# Altium footprint library Master.PcbLib: 26 footprints (part 2 of 2)
Each footprint in its own frame and in the unit in brackets; x right, y up, seen from the top. Pads: shape width x height; smd on the part's side, far side on the other; paste and mask are expansions set on the pad; w line width, h text height; cw(c..) or ccw(c..) is an arc to the next point about the centre after c.
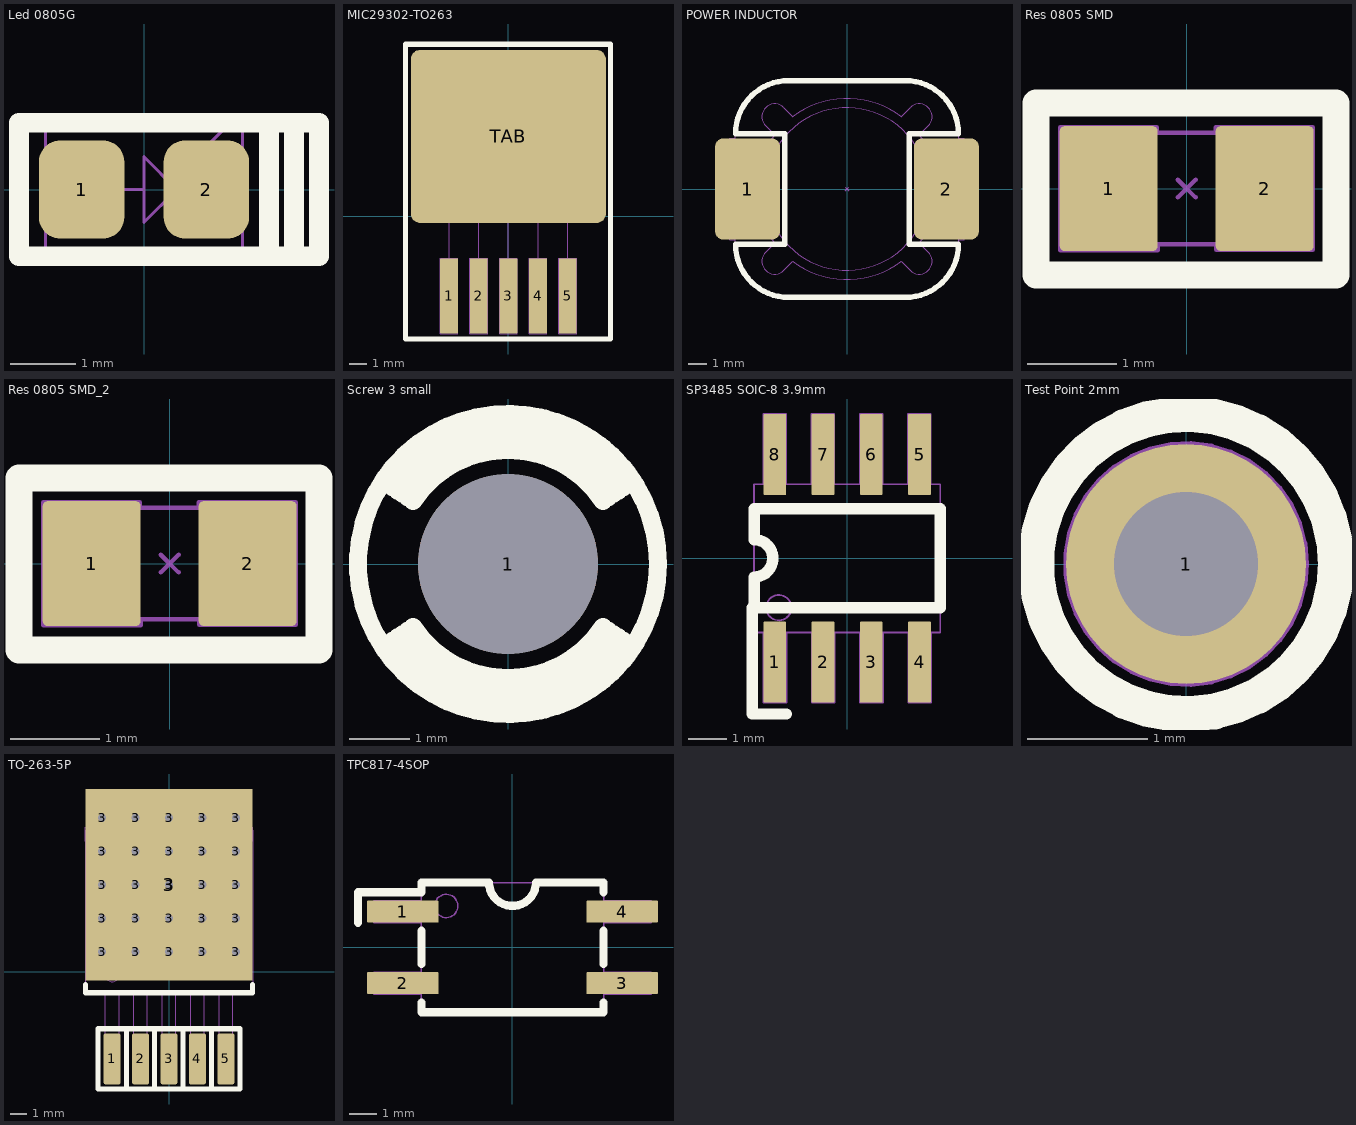
[diagram p1: the footprints below, top view; thin cyan lines are the x and y axes]

## Led 0805G [mm] "Chip LED; Green; Body 2.0 x 1.3 mm (LxW typ)"
height 1.1
pads (2):
  rrect50% 1.3x1.5 smd: 1(-0.95,0) 2(0.95,0)
Top Overlay:
  lines w0.3: 1.905,-1.016 1.905,1.016 ; 2.286,-1.016 2.286,1.016 ; -1.905,-1.016 2.667,-1.016 2.667,1.016 -1.905,1.016 -1.905,-1.016
Mechanical 2:
  lines w0.05: -1.5,-1 -1.5,1.032 ; -0.5,0 0,0 ; 0.5,-0.5 0.5,0.5 ; 0.6,0.5 0.8,0.7 0.8,0.5 1.2,0.9 ; 0.75,0.2 0.95,0.4 0.95,0.2 1.35,0.6 ; 1,0 0.5,0 ; 1.5,-1 1.5,1.032 ; 0.5,0 0,0.5 0,-0.5 0.5,0 ; -1.905,-1 1.905,-1 1.905,1.032 -1.905,1.032 -1.905,-1
3D body "User Library-User Library-led_0805 GRE.step": height 1.1, standoff 0, extent -1.035,-0.625 0.985,0.625

## MIC29302-TO263 [mm] "5 Lead TO263"
pads (6):
  rrect10% 1.02x4.32 smd mask+0.07: 1(-3.4,-4.573) 2(-1.7,-4.573) 3(0,-4.573) 4(1.7,-4.573) 5(3.4,-4.573)
  rrect10% 11.18x9.91 smd mask+0.07: TAB(0,4.573)
Top Overlay:
  lines w0.3: -5.902,-7.044 -5.902,9.863 5.858,9.863 5.858,-7.044 -5.902,-7.044
Mechanical 2:
  lines w0.05: -3.4,-2.407 -3.4,0.013 -3.367,0.013 ; -1.7,-2.407 -1.7,0.013 ; 0,-2.407 0,0.013 ; 1.7,-2.407 1.7,0.013 ; 3.4,-2.407 3.4,0.013 ; -5.334,9.182 5.334,9.182 ; -5.334,9.182 -5.334,0.012 5.334,0.012 5.334,9.182 ; -5.334,9.182 5.334,9.182 ; -3.908,-6.732 -2.893,-6.732 -2.893,-2.407 -3.899,-2.407 -3.899,-2.411 -3.902,-2.414 -3.902,-6.73 -3.908,-6.73 -3.908,-6.732 ; -2.208,-6.732 -2.208,-6.73 -2.202,-6.73 -2.202,-2.414 -2.199,-2.411 -2.199,-2.407 -1.193,-2.407 -1.193,-6.732 -2.208,-6.732 ; -0.508,-6.732 -0.508,-6.73 -0.502,-6.73 -0.502,-2.414 -0.499,-2.411 -0.499,-2.407 0.507,-2.407 0.507,-6.732 -0.508,-6.732 ; 1.192,-6.732 1.192,-6.73 1.198,-6.73 1.198,-2.414 1.201,-2.411 1.201,-2.407 2.207,-2.407 2.207,-6.732 1.192,-6.732 ; 2.892,-6.732 2.892,-6.73 2.898,-6.73 2.898,-2.414 2.901,-2.411 2.901,-2.407 3.907,-2.407 3.907,-6.732 2.892,-6.732
  text ".Designator" at -1.881,5.08 h0.4
  text "EN" at -2.908,0.219 h1
  text "IN" at -1.201,0.219 h1
  text "GND" at 0.506,0.219 h1
  text "OUT" at 2.213,0.219 h1
  text "ADJ" at 3.919,0.219 h1
  text "GND" at -1.145,7.906 h1
3D body "User Library-TO263-5.STEP": height 4.88, standoff 0.08, extent -5.128,-6.077 4.872,9.593

## POWER INDUCTOR [mm]
pads (2):
  rrect25% 3.6x5.6 smd mask+0.1: 1(-5.5,0) 2(5.5,0)
Top Overlay:
  lines w0.3: -6.171,-3.05 ccw(c-3.221,-3.05) -3.221,-6 3.221,-6 ccw(c3.221,-3.05) 6.171,-3.05 3.45,-3.05 3.45,3.05 6.171,3.05 ccw(c3.221,3.05) 3.221,6 -3.221,6 ccw(c-3.221,3.05) -6.171,3.05 -3.45,3.05 -3.45,-3.05 -6.171,-3.05
Mechanical 2:
  circle w0.05: c0,0 r4.5
  lines w0.05: -6.171,-2.8 -6.5,-2.8 -6.5,2.8 -6.171,2.8 ; -0.1,-0.1 0.1,0.1 ; -0.1,0.1 0.1,-0.1 ; 6.171,-2.8 6.5,-2.8 6.5,2.8 6.171,2.8 ; -6.171,-3.05 ccw(c-3.221,-3.05) -3.221,-6 3.221,-6 ccw(c3.221,-3.05) 6.171,-3.05 6.171,3.05 ccw(c3.221,3.05) 3.221,6 -3.221,6 ccw(c-3.221,3.05) -6.171,3.05 -6.171,-3.05 ; -4.5,-3.5 ccw(c-4,-4) -3.5,-4.5 -3,-4 ccw(c0,0) 3,-4 3.5,-4.5 ccw(c4,-4) 4.5,-3.5 4,-3 ccw(c0,0) 4,3 4.5,3.5 ccw(c4,4) 3.5,4.5 3,4 ccw(c0,0) -3,4 -3.5,4.5 ccw(c-4,4) -4.5,3.5 -4,3 ccw(c0,0) -4,-3 -4.5,-3.5
3D body "SUMIDA-CDRH127-DEFAULT.STEP": height 7.6, standoff 0.15, extent -6.171,-6 6.171,6

## Res 0805 SMD [mm] "Reflow Soldering"
height 8.6
pads (2):
  rrect10% 1.1x1.4 smd mask+0.1: 1(-0.875,0) 2(0.875,0)
Top Overlay:
  lines w0.3: -1.69,-0.97 -1.69,0.96 1.675,0.96 1.675,-0.97 -1.69,-0.97
Mechanical 2:
  lines w0.05: -0.331,0.642 -0.334,0.642 -0.334,0.687 -1.416,0.687 -1.416,-0.69 -1.413,-0.69 -0.327,-0.69 ; -0.325,-0.69 -0.325,-0.632 ; 0.324,0.632 0.324,0.69 ; 0.327,0.69 1.413,0.69 ; 0.334,-0.642 0.334,-0.687 1.416,-0.687 1.416,0.69 ; -1,-0.625 1,-0.625 1,0.625 -1,0.625 -1,-0.625
  text ".Designator" at 0,0 h0.4
Mechanical 15:
  lines w0.05: -0.1,-0.1 0.1,0.1 ; -0.1,0.1 0.1,-0.1 ; -1,-0.625 1,-0.625 1,0.625 -1,0.625 -1,-0.625
3D body "User Library-SMD RESISTOR-10805.STEP": height 0.62, standoff 0.02, extent -1,-0.625 1,0.625

## Res 0805 SMD_2 [mm]
pads (2):
  rrect10% 1.1x1.4 smd mask+0.1: 1(-0.875,0) 2(0.875,0)
Top Overlay:
  lines w0.3: -1.69,-0.97 1.675,-0.97 1.675,0.96 -1.69,0.96 -1.69,-0.97
Mechanical 2:
  lines w0.05: -0.331,0.642 -0.334,0.642 -0.334,0.687 -1.416,0.687 -1.416,-0.69 -1.413,-0.69 -0.327,-0.69 ; -0.325,-0.69 -0.325,-0.632 ; 0.324,0.632 0.324,0.69 ; 0.327,0.69 1.413,0.69 ; 0.334,-0.642 0.334,-0.687 1.416,-0.687 1.416,0.69 ; -1,-0.625 1,-0.625 1,0.625 -1,0.625 -1,-0.625
  text ".Designator" at 0,0 h0.4
Mechanical 15:
  lines w0.05: -0.1,-0.1 0.1,0.1 ; -0.1,0.1 0.1,-0.1 ; -1,-0.625 1,-0.625 1,0.625 -1,0.625 -1,-0.625
3D body "User Library-SMD RESISTOR-10805.STEP": height 0.62, standoff 0.02, extent -1,-0.625 1,0.625

## Screw 3 small [mm] "Hole 3mm, outline 5mm"
height 10
pads (1):
  round 3 hole 3 mask+0.1: 1(0,0)
Top Overlay:
  circle w0.3: c0,0 r2.5
  lines w0.3: -1.997,-1.331 ccw(c0,0) 1.997,-1.331 ; -1.997,1.331 cw(c0,0) 1.997,1.331 ; -1.831,-1.22 ccw(c0,0) 1.831,-1.22 ; -1.831,1.22 cw(c0,0) 1.831,1.22 ; -1.747,-1.165 ccw(c0,0) 1.747,-1.165 ; -1.747,1.165 cw(c0,0) 1.747,1.165 ; -1.664,-1.109 ccw(c0,0) 1.664,-1.109 ; -1.664,1.109 cw(c0,0) 1.664,1.109 ; -1.581,-1.054 ccw(c0,0) 1.581,-1.054 ; -1.581,1.054 cw(c0,0) 1.581,1.054 ; -2.08,-1.387 ccw(c0,0) 2.08,-1.387 cw(c0,0) -2.08,-1.387 ; -2.08,1.387 cw(c0,0) 2.08,1.387 ccw(c0,0) -2.08,1.387 ; -1.914,-1.276 ccw(c0,0) 1.914,-1.276 cw(c0,0) -1.914,-1.276 ; -1.914,1.276 cw(c0,0) 1.914,1.276 ccw(c0,0) -1.914,1.276
3D body "Screw-3mmX10mm.step": height 1.73, standoff -10, extent -2.5,-2.5 2.5,2.5

## SP3485 SOIC-8 3.9mm [mm] "8-Pin SOIC 3.9mm Width"
height 2.16
pads (8):
  rrect10% 0.6x2.135 smd mask+0.1: 1(-1.905,-2.732) 2(-0.635,-2.732) 3(0.635,-2.732) 4(1.905,-2.732) 5(1.905,2.733) 6(0.635,2.733) 7(-0.635,2.733) 8(-1.905,2.733)
Top Overlay:
  lines w0.3: -1.6,-4.1 -2.5,-4.1 -2.5,-1.3 -2.45,-1.3 ; -2.45,-1.3 2.45,-1.3 2.45,1.3 -2.45,1.3 -2.45,0.493 cw(c-2.45,0) -2.45,-0.492 -2.45,-1.3
Mechanical 2:
  circle w0.05: c-1.8,-1.3 r0.334
  lines w0.05: -2.45,-0.532 ccw(c-2.45,0) -2.45,0.532 ; -2.21,1.95 -2.21,3.8 -1.61,3.8 -1.61,1.95 ; -2.2,-1.95 -2.2,-3.8 -1.6,-3.8 -1.6,-1.95 ; -0.94,1.95 -0.94,3.8 -0.34,3.8 -0.34,1.95 ; -0.93,-1.95 -0.93,-3.8 -0.33,-3.8 -0.33,-1.95 ; 0.33,1.95 0.33,3.8 0.93,3.8 0.93,1.95 ; 0.34,-1.95 0.34,-3.8 0.94,-3.8 0.94,-1.95 ; 1.6,1.95 1.6,3.8 2.2,3.8 2.2,1.95 ; 1.61,-1.95 1.61,-3.8 2.21,-3.8 2.21,-1.95 ; -2.45,-1.95 2.45,-1.95 2.45,1.95 -2.45,1.95 -2.45,-1.95
  text "4" at 1.6,-1.7 h1
  text ".Designator" at 0,0 h0.4
  text "5" at 1.62,0.712 h1
  text "8" at -2.24,0.712 h1
3D body "User Library-SOIC-8-1 (2).step": height 1.75, standoff 0, extent -2.45,-3 2.45,3
3D body "User Library-SOIC-8-1.step": height 1.75, standoff 0, extent -2.45,-3 2.45,3

## Test Point 2mm [mm]
height 8.6
pads (1):
  round 2 hole 1.2 mask+0.1: 1(0,0)
Top Overlay:
  circle w0.3: c0,0 r1.25
Bottom Overlay:
  circle w0.3: c0,0 r1.25
Mechanical 2:
  circle w0.05: c0,0 r1
  text "1" at -0.13,-0.35 h0.8

## TO-263-5P [mm]
height 8.6
pads (31):
  rrect25% 1.016x3.05 smd mask+0.1: 1(-3.4,-5.208) 2(-1.7,-5.207) 3(0,-5.207) 4(1.7,-5.208) 5(3.4,-5.207)
  round 1 hole 0.5: 3(-4,1.208) 3(-4,5.208) 3(-4,7.208) 3(-4,9.207) 3(-4,3.207) 3(-2,1.208) 3(-2,3.207) 3(-2,5.208) 3(-2,7.207) 3(-2,9.207) 3(0,1.208) 3(0,5.208) 3(0,7.208) 3(0,9.207) 3(0,3.207) 3(2,3.207) 3(2,1.208) 3(2,5.207) 3(2,7.208) 3(2,9.207) 3(4,1.208) 3(4,3.208) 3(4,5.208) 3(4,7.208) 3(4,9.207)
  rect 10x11.43 smd mask+0.1: 3(0,5.208)
Top Overlay:
  lines w0.3: -5,-0.76 -5,-1.25 5,-1.25 5,-0.76 ; -2.55,-7 -2.55,-3.4 ; -0.852,-7 -0.852,-3.4 ; 0.85,-7 0.85,-3.4 ; 2.55,-7 2.55,-3.4 ; -4.25,-7 4.25,-7 4.25,-3.4 -4.25,-3.4 -4.25,-7
Mechanical 2:
  circle w0.05: c-3.4,-0.208 r0.381
  lines w0.05: -3.8,-1.25 -3.8,-6.2 -3,-6.2 -3,-1.25 ; -2.1,-1.25 -2.1,-6.2 -1.3,-6.2 -1.3,-1.25 ; -0.4,-1.25 -0.4,-6.2 0.4,-6.2 0.4,-1.25 ; -0.1,-0.1 0.1,0.1 ; -0.1,0.1 0.1,-0.1 ; 1.3,-1.25 1.3,-6.2 2.1,-6.2 2.1,-1.25 ; 3,-1.25 3,-6.2 3.8,-6.2 3.8,-1.25 ; -5,-1.25 5,-1.25 ; -5,-1.25 -5,8.46 5,8.46 5,-1.25 ; -5,-1.25 -5,7.8 -5,8.65 -3.105,9.5 3.105,9.5 5,8.65 5,7.8 5,-1.25
  text "XL4015" at -2.2,3.6 h0.8
  text "5" at 3.1,-3.858 h0.8
  text "4" at 1.45,-3.858 h0.8
  text ".Designator" at 0.1,0.1 h0.4
  text "6" at -0.25,8.592 h0.8
  text "3" at -0.25,-3.858 h0.8
  text "2" at -1.95,-3.858 h0.8
  text "1" at -3.5,-3.858 h0.8
3D body "SW3dPS-TO263-5.STEP": height 4.83, standoff 0.03, extent -5,-6.19 5,9.48

## TPC817-4SOP [mm] "OPTOISO 5KV TRANS 4SOP"
height 3.68
pads (4):
  rrect10% 2.6x0.8 smd: 1(-3.975,1.295) 2(-3.975,-1.295) 3(3.975,-1.295) 4(3.975,1.295)
Top Overlay:
  lines w0.3: -5.6,0.894 -5.6,2 -3.3,2 -3.3,2.35 -0.85,2.35 ccw(c0,2.35) 0.85,2.35 3.3,2.35 3.3,2 ; -3.3,-2 -3.3,-2.35 3.3,-2.35 3.3,-2 ; -3.3,-0.6 -3.3,0.6 ; 3.3,-0.6 3.3,0.6
Mechanical 2:
  circle w0.05: c-2.4,1.5 r0.424
  lines w0.05: -3.317,-1.695 -5.027,-1.695 -5.027,-0.896 -3.301,-0.896 ; -3.316,0.894 -3.317,0.895 -5.027,0.895 -5.027,1.694 -3.301,1.694 ; -0.85,2.35 ccw(c0,2.35) 0.85,2.35 ; 3.301,-1.694 5.027,-1.694 5.027,-0.895 3.317,-0.895 ; 3.301,0.896 5.027,0.896 5.027,1.695 3.317,1.695 ; -3.3,-2.35 -3.3,2.35 3.3,2.35 3.3,-2.35 -3.3,-2.35
  text "E" at 2.4,-1.7 h0.8
  text "K" at -3,-1.694 h0.8
  text ".Designator" at 0,0 h0.4
  text "A" at -3,0.1 h0.8
  text "C" at 2.4,0.9 h0.8
3D body "User Library-LTV-356T.step": height 2, standoff -0.1, extent -3.5,-1.925 3.5,1.925